# Altium schematic symbol library AT24Cxx.SchLib: 2 symbols
Pins are listed as number, name and electrical type; pins without a type are passive.

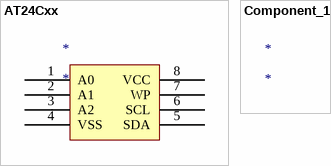
[diagram p0: symbols AT24Cxx to Component_1]

## AT24Cxx
designator *
pins: 1 A0, 2 A1, 3 A2, 4 VSS, 5 SDA, 6 SCL, 7 WP, 8 VCC

## Component_1
designator *